# EAGLE library part OSTTE16104 (library OSTTE160104)
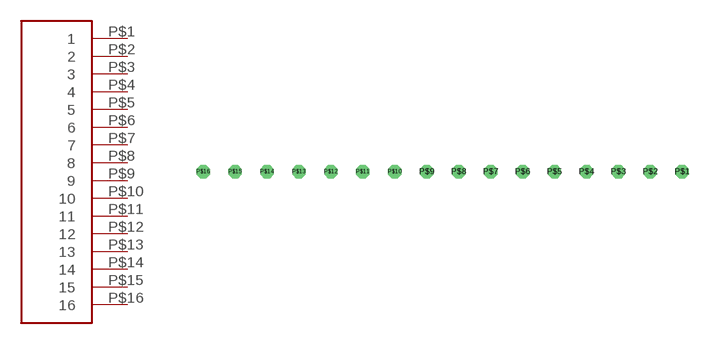
[diagram p0: symbol with the pads of OSTTE160104; footprint OSTTE160104]

Designator prefix J

## OSTTE16104  [OSTTE160104]
P$1  1
P$2  2
P$3  3
P$4  4
P$5  5
P$6  6
P$7  7
P$8  8
P$9  9
P$10  10
P$11  11
P$12  12
P$13  13
P$14  14
P$15  15
P$16  16

## Footprint OSTTE160104 (pad centres in mm)
drill 0.95 octagon: P$1 24.5,0; P$2 21,0; P$3 17.5,0; P$4 14,0; P$5 10.5,0; P$6 7,0; P$7 3.5,0; P$8 0,0; P$9 -3.5,0; P$10 -7,0; P$11 -10.5,0; P$12 -14,0; P$13 -17.5,0; P$14 -21,0; P$15 -24.5,0; P$16 -28,0